# Altium schematic symbol library GCJ188C70J475KE02D.SchLib: 1 symbol
Pins are listed as number, name and electrical type; pins without a type are passive.

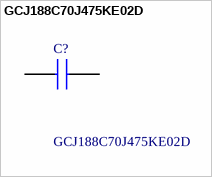
[diagram p0: symbol GCJ188C70J475KE02D]

## GCJ188C70J475KE02D
designator C?
Capacitor GCJ18 L=1.6mm W=0.8mm T=0.8mm; Manufacturer_Name: Murata Electronics; Geometry.Height: 1mm; Mouser Part Number: 81-GCJ188C70J475KE2D; Mouser Price/Stock: https://www.mouser.co.uk/ProductDetail/Murata-Electronics/GCJ188C70J475KE02D?qs=QzBtWTOodeVfJR8CElrI4A%3D%3D; Manufacturer_Part_Number: GCJ188C70J475KE02D; Datasheet Link: https://psearch.en.murata.com/capacitor/product/GCJ188C70J475KE02%23.html
footprint CAPC1608X100N
pins: 1, 2